# Altium integrated library Calculator_2X2.IntLib: 28 symbols
Pins are listed as number, name and electrical type; pins without a type are passive.

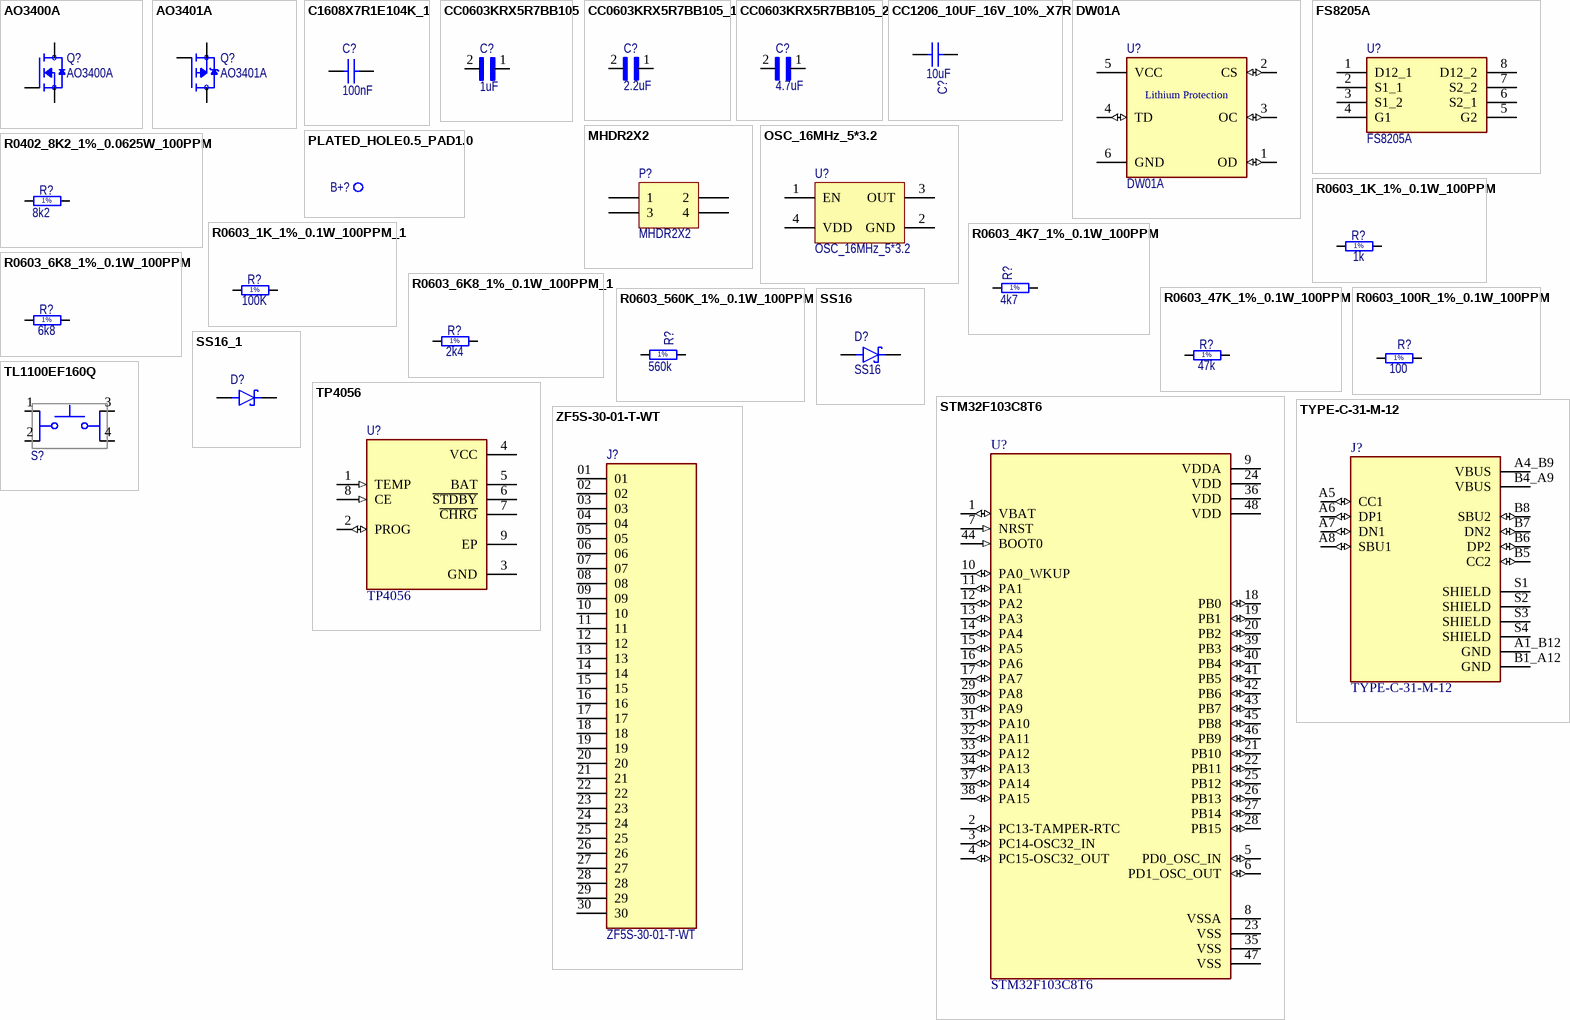
[diagram p0: symbols AO3400A to ZF5S-30-01-T-WT]

## AO3400A
designator Q?
Trans MOSFET N-CH 30V 5.7A 3-Pin SOT-23; MF: {'manufacturer': u'Alpha '}; Package: None; Price: None; Value: *; MP: AO3400A; Availability: Unavailable
footprint SOT95P280X125-3N
pins: 1 G, 2 S, 3 D

## AO3401A
designator Q?
Trans MOSFET N-CH 30V 5.7A 3-Pin SOT-23; MF: {'manufacturer': u'Alpha '}; MP: AO3400A; Package: None; Price: None; Value: *; Availability: Unavailable
footprint SOT95P280X125-3N
pins: 1 G, 2 S, 3 D

## C1608X7R1E104K_1
designator C?  value 100nF
Capacitor,Ceramic,100nF,25V,X7R,10%; Manufacture: TDK
footprint 0603C
pins: 1, 2

## CC0603KRX5R7BB105
designator C?, comment 1uF
1ÂµF Â±10% 16V Ceramic Capacitor X5R 0603 (1608 Metric); MP: CC0603KRX5R7BB105; MF: Yageo; Package: 0603 Yageo; SnapEDA_Link: https://www.snapeda.com/parts/CC0603KRX5R7BB105/Yageo/view-part/550330/?ref=snap; Purchase-URL: https://pricing.snapeda.com/search/part/CC0603KRX5R7BB105/?ref=eda; Value: 1uF; Availability: Good; Price: None; Check_prices: https://www.snapeda.com/parts/CC0603KRX5R7BB105/Yageo/view-part/550330/?ref=eda
footprint 0805C
footprint 0603C
pins: 1, 2

## CC0603KRX5R7BB105_1
designator C?, comment 2.2uF
1ÂµF Â±10% 16V Ceramic Capacitor X5R 0603 (1608 Metric); MP: CC0603KRX5R7BB105; MF: Yageo; Package: 0603 Yageo; SnapEDA_Link: https://www.snapeda.com/parts/CC0603KRX5R7BB105/Yageo/view-part/550330/?ref=snap; Purchase-URL: https://pricing.snapeda.com/search/part/CC0603KRX5R7BB105/?ref=eda; Value: 2.2uF; Availability: Good; Price: None; Check_prices: https://www.snapeda.com/parts/CC0603KRX5R7BB105/Yageo/view-part/550330/?ref=eda
footprint 0805C
footprint 0603C
pins: 1, 2

## CC0603KRX5R7BB105_2
designator C?, comment 4.7uF
1ÂµF Â±10% 16V Ceramic Capacitor X5R 0603 (1608 Metric); MP: CC0603KRX5R7BB105; MF: Yageo; Package: 0603 Yageo; SnapEDA_Link: https://www.snapeda.com/parts/CC0603KRX5R7BB105/Yageo/view-part/550330/?ref=snap; Purchase-URL: https://pricing.snapeda.com/search/part/CC0603KRX5R7BB105/?ref=eda; Value: 4.7uF; Availability: Good; Price: None; Check_prices: https://www.snapeda.com/parts/CC0603KRX5R7BB105/Yageo/view-part/550330/?ref=eda
footprint 0805C
footprint 0603C
pins: 1, 2

## CC1206_10UF_16V_10%_X7R
designator C?, comment 10uF
Non-polarised capacitor; Part Number: CC1206_10UF_16V_10%_X7R; Part Description: SMD Multilayer Chip Ceramic Capacitor; Manufacturer: GENERIC; Manufacturer1 Part Number: C1206C106K4RAC; Voltage: 16V; TC: X7R; Tolerance: ±10%; Component Kind: Standard; Component Type: Standard; Footprint: CAPC3216X140N; Pin Count: 2; Value: 10uF; Status: Preferred; Manufacturer Part Number: CC1206_10uF_16V_10%_X7R; Case: 1206; Mounted: Yes; Socket: No; SMD: Yes; Sense: No; Manufacturer1 Example: KEMET; Manufacturer1 ComponentHeight: 1.8mm; HelpURL: \\cern.ch\dfs\Applications\Altium\Datasheets\CC1206_X7R_KEMET.pdf; Author: CERN DEM JLC; CreateDate: 4/28/2009; LatestRevisionDate: 4/28/2009
footprint CAPC3216X140N
footprint CAPC3216X140N
footprint 0603C
pins: 1, 2

## DW01A
designator U?
MF: {'manufacturer': u'Fortune Semiconductor'}; Price: None; Package: None; Value: *; MP: DW01A; Availability: Unavailable
footprint SOT23-6
pins: 1 OD (io), 2 CS (io), 3 OC (io), 4 TD (io), 5 VCC (power), 6 GND
text: Lithium Protection

## FS8205A
designator U?
MOSFET (N-Channel); Manufacturer_Name: Fortune Semiconductor Corporation; Datasheet Link: http://www.ic-fortune.com/upload/Download/FS8205A-DS-12_EN.pdf; Height: 1.2mm; Manufacturer_Part_Number: FS8205A
footprint SOP65P640X120-8N
footprint SOP65P640X120-8N
pins: 1 D12_1, 2 S1_1, 3 S1_2, 4 G1, 5 G2, 6 S2_1, 7 S2_2, 8 D12_2

## MHDR2X2
designator P?
Header, 2-Pin, Dual row; LatestRevisionDate: 17-Jul-2002; LatestRevisionNote: Re-released for DXP Platform.; Publisher: Altium Limited
footprint MHDR2X2 (Connector; Header; 2x2 Position)
signal-integrity model Connector
pins: 1, 2, 3, 4

## OSC_16MHz_5*3.2
designator U?
footprint OSC_16MHz_5*3.2
pins: 1 EN, 2 GND, 3 OUT, 4 VDD

## PLATED_HOLE0.5_PAD1.0
designator B+?  (no BOM)
Single Terminal Socket; Part Number: PLATED_HOLE0.5_PAD1.0; Part Description: Plated Through Hole: Hole Dia.=0.5mm Pad Dia.=1.0mm; Mounted: No; Component Type: Standard (No BOM); Footprint: c100h50; Pin Count: 1; Family: Plated Hole; Socket: No; SMD: No; Sense: No; Status: None; ComponentHeight: 0mm; HelpURL: Undefined; Author: CERN DEM JMW; CreateDate: 06/01/2020; LatestRevisionDate: 06/01/2020; PackageDescription: Plated Through Hole: Hole Dia.=0.5mm Pad Dia.=1.0mm
footprint c100h50
pins: 1 (io)

## R0402_8K2_1%_0.0625W_100PPM
designator R?, comment 8k2
Resistor - 1%; Part Number: R0402_8K2_1%_0.0625W_100PPM; Part Description: General Purpose Thick Film Chip Resistor; Manufacturer: GENERIC; Manufacturer1 Part Number: 232270678202L; Power: 0.0625W; TC: ±100ppm/°C; PressFit: No; Component Kind: Standard; Component Type: Standard; Footprint: RESC1005X40N; Pin Count: 2; Value: 8k2; Status: Not Recommended; Tolerance: ±1%; Manufacturer Part Number: R0402_8K2_1%_0.0625W_100PPM; Case: 0402; Mounted: Yes; Sense: No; Socket: No; SMD: Yes; Manufacturer1 Example: YAGEO PHYCOMP; Manufacturer1 ComponentHeight: 0.4mm; HelpURL: \\cern.ch\dfs\Applications\Altium\Datasheets\R0402_Phycomp_RC0402.pdf; Author: CERN DEM JLC; CreateDate: 03/12/2007; LatestRevisionDate: 17/10/2012
footprint RESC1005X40N
footprint RESC2012X60N
footprint RESC1608X64N (Chip Resistor, EIA 0603, Metric 1608, Body 1.6x0.8mm, IPC Medium Density)
footprint 0603R
pins: 1, 2
text: 1%

## R0603_1K_1%_0.1W_100PPM
designator R?, comment 1k
Resistor - 1%; Part Number: R0603_1K_1%_0.1W_100PPM; Part Description: General Purpose Thick Film Chip Resistor; Manufacturer: GENERIC; Manufacturer1 Part Number: NRC06F1001TRF; Power: 0.1W; TC: ±100ppm/°C; PressFit: No; Component Kind: Standard; Component Type: Standard; Footprint: RESC1608X55N; Pin Count: 2; Value: 1k; Status: Preferred; Tolerance: ±1%; Manufacturer Part Number: R0603_1K_1%_0.1W_100PPM; Case: 0603; Mounted: Yes; Sense: No; Socket: No; SMD: Yes; Manufacturer1 Example: NIC COMPONENT; Manufacturer1 ComponentHeight: 0.55mm; HelpURL: \\cern.ch\dfs\Applications\Altium\Datasheets\R0603_NIC_NRC.pdf; Author: CERN DEM JLC; CreateDate: 12/3/2007; LatestRevisionDate: 3/13/2008
footprint RESC2012X60N
footprint RESC1608X64N (Chip Resistor, EIA 0603, Metric 1608, Body 1.6x0.8mm, IPC Medium Density)
footprint 0603R
pins: 1, 2
text: 1%

## R0603_1K_1%_0.1W_100PPM_1
designator R?, comment 100K
Resistor - 1%; Part Number: R0603_1K_1%_0.1W_100PPM; Part Description: General Purpose Thick Film Chip Resistor; Manufacturer: GENERIC; Manufacturer1 Part Number: NRC06F1001TRF; Power: 0.1W; TC: ±100ppm/°C; PressFit: No; Component Kind: Standard; Component Type: Standard; Footprint: RESC1608X55N; Pin Count: 2; Value: 100K; Status: Preferred; Tolerance: ±1%; Manufacturer Part Number: R0603_1K_1%_0.1W_100PPM; Case: 0603; Mounted: Yes; Sense: No; Socket: No; SMD: Yes; Manufacturer1 Example: NIC COMPONENT; Manufacturer1 ComponentHeight: 0.55mm; HelpURL: \\cern.ch\dfs\Applications\Altium\Datasheets\R0603_NIC_NRC.pdf; Author: CERN DEM JLC; CreateDate: 12/3/2007; LatestRevisionDate: 3/13/2008
footprint RESC2012X60N
footprint 0603R
pins: 1, 2
text: 1%

## R0603_4K7_1%_0.1W_100PPM
designator R?, comment 4k7
Resistor - 1%; Part Number: R0603_4K7_1%_0.1W_100PPM; Part Description: General Purpose Thick Film Chip Resistor; Manufacturer: GENERIC; Manufacturer1 Part Number: NRC06F4701TRF; Power: 0.1W; TC: ±100ppm/°C; PressFit: No; Component Kind: Standard; Component Type: Standard; Footprint: RESC1608X55N; Pin Count: 2; Value: 4k7; Status: Preferred; Tolerance: ±1%; Manufacturer Part Number: R0603_4K7_1%_0.1W_100PPM; Case: 0603; Mounted: Yes; Sense: No; Socket: No; SMD: Yes; Manufacturer1 Example: NIC COMPONENT; Manufacturer1 ComponentHeight: 0.55mm; HelpURL: \\cern.ch\dfs\Applications\Altium\Datasheets\R0603_NIC_NRC.pdf; Author: CERN DEM JLC; CreateDate: 03/12/2007; LatestRevisionDate: 13/03/2008
footprint RESC2012X60N
footprint RESC1608X64N (Chip Resistor, EIA 0603, Metric 1608, Body 1.6x0.8mm, IPC Medium Density)
footprint 0603R
pins: 1, 2
text: 1%

## R0603_6K8_1%_0.1W_100PPM
designator R?, comment 6k8
Resistor - 1%; Part Number: R0603_6K8_1%_0.1W_100PPM; Part Description: General Purpose Thick Film Chip Resistor; Manufacturer: GENERIC; Manufacturer1 Part Number: NRC06F6801TRF; Power: 0.1W; TC: ±100ppm/°C; PressFit: No; Component Kind: Standard; Component Type: Standard; Footprint: RESC1608X55N; Pin Count: 2; Value: 6k8; Status: Preferred; Tolerance: ±1%; Manufacturer Part Number: R0603_6K8_1%_0.1W_100PPM; Case: 0603; Mounted: Yes; Sense: No; Socket: No; SMD: Yes; Manufacturer1 Example: NIC COMPONENT; Manufacturer1 ComponentHeight: 0.55mm; HelpURL: \\cern.ch\dfs\Applications\Altium\Datasheets\R0603_NIC_NRC.pdf; Author: CERN DEM JLC; CreateDate: 03/12/2007; LatestRevisionDate: 13/03/2008
footprint RESC2012X60N
footprint RESC1608X64N (Chip Resistor, EIA 0603, Metric 1608, Body 1.6x0.8mm, IPC Medium Density)
footprint 0603R
pins: 1, 2
text: 1%

## R0603_6K8_1%_0.1W_100PPM_1
designator R?, comment 2k4
Resistor - 1%; Part Number: R0603_6K8_1%_0.1W_100PPM; Part Description: General Purpose Thick Film Chip Resistor; Manufacturer: GENERIC; Manufacturer1 Part Number: NRC06F6801TRF; Power: 0.1W; TC: ±100ppm/°C; PressFit: No; Component Kind: Standard; Component Type: Standard; Footprint: RESC1608X55N; Pin Count: 2; Value: 2k4; Status: Preferred; Tolerance: ±1%; Manufacturer Part Number: R0603_6K8_1%_0.1W_100PPM; Case: 0603; Mounted: Yes; Sense: No; Socket: No; SMD: Yes; Manufacturer1 Example: NIC COMPONENT; Manufacturer1 ComponentHeight: 0.55mm; HelpURL: \\cern.ch\dfs\Applications\Altium\Datasheets\R0603_NIC_NRC.pdf; Author: CERN DEM JLC; CreateDate: 03/12/2007; LatestRevisionDate: 13/03/2008
footprint RESC2012X60N
footprint RESC1608X64N (Chip Resistor, EIA 0603, Metric 1608, Body 1.6x0.8mm, IPC Medium Density)
footprint 0603R
pins: 1, 2
text: 1%

## R0603_47K_1%_0.1W_100PPM
designator R?, comment 47k
Resistor - 1%; Part Number: R0603_47K_1%_0.1W_100PPM; Part Description: General Purpose Thick Film Chip Resistor; Manufacturer: GENERIC; Manufacturer1 Part Number: NRC06F4702TRF; Power: 0.1W; TC: ±100ppm/°C; PressFit: No; Component Kind: Standard; Component Type: Standard; Footprint: RESC1608X55N; Pin Count: 2; Value: 47k; Status: Preferred; Tolerance: ±1%; Manufacturer Part Number: R0603_47K_1%_0.1W_100PPM; Case: 0603; Mounted: Yes; Sense: No; Socket: No; SMD: Yes; Manufacturer1 Example: NIC COMPONENT; Manufacturer1 ComponentHeight: 0.55mm; HelpURL: \\cern.ch\dfs\Applications\Altium\Datasheets\R0603_NIC_NRC.pdf; Author: CERN DEM JLC; CreateDate: 03/12/2007; LatestRevisionDate: 13/03/2008
footprint RESC2012X60N
footprint RESC1608X64N (Chip Resistor, EIA 0603, Metric 1608, Body 1.6x0.8mm, IPC Medium Density)
footprint 0603R
pins: 1, 2
text: 1%

## R0603_100R_1%_0.1W_100PPM
designator R?, comment 100
Resistor - 1%; Part Number: R0603_100R_1%_0.1W_100PPM; Part Description: General Purpose Thick Film Chip Resistor; Manufacturer: GENERIC; Manufacturer1 Part Number: NRC06F4700TRF; Power: 0.1W; TC: ±100ppm/°C; PressFit: No; Component Kind: Standard; Component Type: Standard; Footprint: RESC1608X55N; Pin Count: 2; Value: 100; Status: Preferred; Tolerance: ±1%; Manufacturer Part Number: R0603_100R_1%_0.1W_100PPM; Case: 0603; Mounted: Yes; Sense: No; Socket: No; SMD: Yes; Manufacturer1 Example: NIC COMPONENT; Manufacturer1 ComponentHeight: 0.55mm; HelpURL: \\cern.ch\dfs\Applications\Altium\Datasheets\R0603_NIC_NRC.pdf; Author: CERN DEM JLC; CreateDate: 12/3/2007; LatestRevisionDate: 3/13/2008
footprint RESC2012X60N
footprint RESC1608X64N (Chip Resistor, EIA 0603, Metric 1608, Body 1.6x0.8mm, IPC Medium Density)
footprint 0603R
pins: 1, 2
text: 1%

## R0603_560K_1%_0.1W_100PPM
designator R?, comment 560k
Resistor - 1%; Part Number: R0603_560K_1%_0.1W_100PPM; Part Description: General Purpose Thick Film Chip Resistor; Manufacturer: GENERIC; Manufacturer1 Part Number: NRC06F5603TRF; Power: 0.1W; TC: ±100ppm/°C; PressFit: No; Component Kind: Standard; Component Type: Standard; Footprint: RESC1608X55N; Pin Count: 2; Value: 560k; Status: Preferred; Tolerance: ±1%; Manufacturer Part Number: R0603_560K_1%_0.1W_100PPM; Case: 0603; Mounted: Yes; Sense: No; Socket: No; SMD: Yes; Manufacturer1 Example: NIC COMPONENT; Manufacturer1 ComponentHeight: 0.55mm; HelpURL: \\cern.ch\dfs\Applications\Altium\Datasheets\R0603_NIC_NRC.pdf; Author: CERN DEM JLC; CreateDate: 03/12/2007; LatestRevisionDate: 13/03/2008
footprint RESC2012X60N
footprint RESC1608X64N (Chip Resistor, EIA 0603, Metric 1608, Body 1.6x0.8mm, IPC Medium Density)
footprint 0603R
pins: 1, 2
text: 1%

## SS16
designator D?
SS16 Series 700 mV 1 A 60 V Max Reverse Voltage Schottky Rectifier - DO-214AC; MF: {'manufacturer': u'ON Semiconductor'}; Package: None; Price: None; Value: *; MP: SS16; Availability: Unavailable
footprint DIOM5227X250N
pins: A, C K

## SS16_1
designator D?
SS16 Series 700 mV 1 A 60 V Max Reverse Voltage Schottky Rectifier - DO-214AC; MF: {'manufacturer': u'ON Semiconductor'}; Package: None; Price: None; Value: *; MP: SS16; Availability: Unavailable
footprint DIOM5227X250N
pins: A, C K

## STM32F103C8T6
designator U?
Mainstream Performance line, ARM Cortex-M3 MCU with 64 Kbytes Flash, 72 MHz CPU, motor control, USB and CAN; MF: {'manufacturer': u'STMicroelectronics'}; Package: None; Price: None; Value: *; MP: STM32F103C8T6; Availability: Unavailable
footprint QFP50P900X900X160-48N
pins: 1 VBAT (io), 2 PC13-TAMPER-RTC (io), 3 PC14-OSC32_IN (io), 4 PC15-OSC32_OUT (io), 5 PD0_OSC_IN (io), 6 PD1_OSC_OUT (io), 7 NRST (in), 8 VSSA (power), 9 VDDA (power), 10 PA0_WKUP (io), 11 PA1 (io), 12 PA2 (io), 13 PA3 (io), 14 PA4 (io), 15 PA5 (io), 16 PA6 (io), 17 PA7 (io), 18 PB0 (io), 19 PB1 (io), 20 PB2 (io), 21 PB10 (io), 22 PB11 (io), 23 VSS (power), 24 VDD (power), 25 PB12 (io), 26 PB13 (io), 27 PB14 (io), 28 PB15 (io), 29 PA8 (io), 30 PA9 (io), 31 PA10 (io), 32 PA11 (io), 33 PA12 (io), 34 PA13 (io), 35 VSS (power), 36 VDD (power), 37 PA14 (io), 38 PA15 (io), 39 PB3 (io), 40 PB4 (io), 41 PB5 (io), 42 PB6 (io), 43 PB7 (io), 44 BOOT0 (in), 45 PB8 (io), 46 PB9 (io), 47 VSS (power), 48 VDD (power)

## TL1100EF160Q
designator S?  (value not drawn)
Tactile Switch SPST-NO Top Actuated Through Hole; MF: E-Switch; Value: *; SnapEDA_Link: https://www.snapeda.com/parts/TL1100EF160Q/E-Switch/view-part/?ref=snap; Purchase-URL: https://pricing.snapeda.com/search/part/TL1100EF160Q/?ref=eda; Availability: In Stock; Price: None; Package: None; Check_prices: https://www.snapeda.com/parts/TL1100EF160Q/E-Switch/view-part/?ref=eda; MP: TL1100EF160Q
footprint SW_TL1100EF160Q
pins: 1, 2, 3, 4

## TP4056
designator U?
Complete single cell Li-Ion battery with a constant current / constant voltage linear charger; MF: {'manufacturer': u'NanJing Top Power ASIC Corp.'}; Price: None; Package: None; Value: *; MP: TP4056; Availability: Unavailable
footprint SOP127P600X175-9N
footprint SOP127P600X175-9N
pins: 1 TEMP (in), 2 PROG (io), 3 GND (power), 4 VCC (power), 5 BAT, 6 ~{STDBY}, 7 ~{CHRG}, 8 CE (in), 9 EP

## TYPE-C-31-M-12
designator J?
USB Connectors 24 Receptacle 1 8.94*7.3mm RoHS; MF: HRO Electronics Co., Ltd.; Price: None; Value: *; SnapEDA_Link: https://www.snapeda.com/parts/TYPE-C-31-M-12/HRO+Electronics+Co.%252C+Ltd./view-part/?ref=snap; Package: Package; Availability: Not in stock; Check_prices: https://www.snapeda.com/parts/TYPE-C-31-M-12/HRO+Electronics+Co.%252C+Ltd./view-part/?ref=eda; MP: TYPE-C-31-M-12
footprint HRO_TYPE-C-31-M-12
pins: A1_B12 GND (power), A4_B9 VBUS (power), A5 CC1 (io), A6 DP1 (io), A7 DN1 (io), A8 SBU1 (io), B1_A12 GND (power), B4_A9 VBUS (power), B5 CC2 (io), B6 DP2 (io), B7 DN2 (io), B8 SBU2 (io), S1 SHIELD, S2 SHIELD, S3 SHIELD, S4 SHIELD

## ZF5S-30-01-T-WT
designator J?
ZERO INSERTION FORCE .5MM ASSEMB; MF: Samtec Inc.; MP: ZF5S-30-01-T-WT-TR; Availability: Unavailable; Toby_UK-Purchase-URL: https://snapeda.com/shop?store=Toby+UK&id=4799814; SnapEDA_Link: https://www.snapeda.com/parts/ZF5S-30-01-T-WT-TR/Samtec/view-part/4799814/?ref=snap; Value: *; Price: None; Package: None
footprint SAMTEC_ZF5S-30-01-T-WT
pins: 01, 02, 03, 04, 05, 06, 07, 08, 09, 10, 11, 12, 13, 14, 15, 16, 17, 18, 19, 20, 21, 22, 23, 24, 25, 26, 27, 28, 29, 30